# EAGLE library part 1-282834-0 (library 1-282834-0)
TERM BLOCK 10POS SIDE ENT 2.54MM
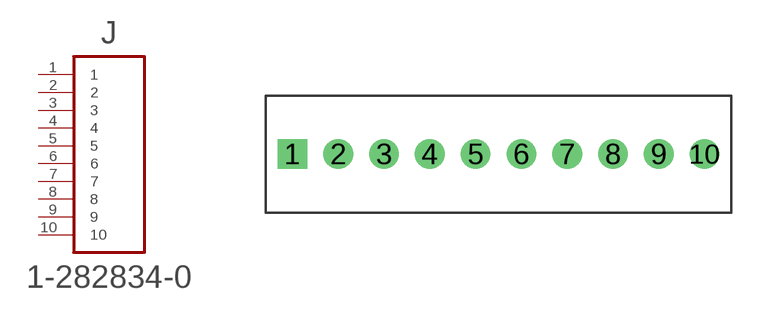
[diagram p0: symbol with the pads of TE_1-282834-0; footprint TE_1-282834-0]

Designator prefix J

## 1-282834-0 (MANUFACTURER: TE CONNECTIVITY; PARTREV: C1; STANDARD: MANUFACTURER RECOMMENDATIONS)  [TE_1-282834-0]
1  1  pas
2  2  pas
3  3  pas
4  4  pas
5  5  pas
6  6  pas
7  7  pas
8  8  pas
9  9  pas
10  10  pas

## Footprint TE_1-282834-0 (pad centres in mm)
drill 1.1 square: 1 0,0
drill 1.1: 2 2.54,0; 3 5.08,0; 4 7.62,0; 5 10.16,0; 6 12.7,0; 7 15.24,0; 8 17.78,0; 9 20.32,0; 10 22.86,0